# EAGLE library part 74HC4050D,652 (library NXP_By_element14_Batch_1)
Hex high-to-low level shifter
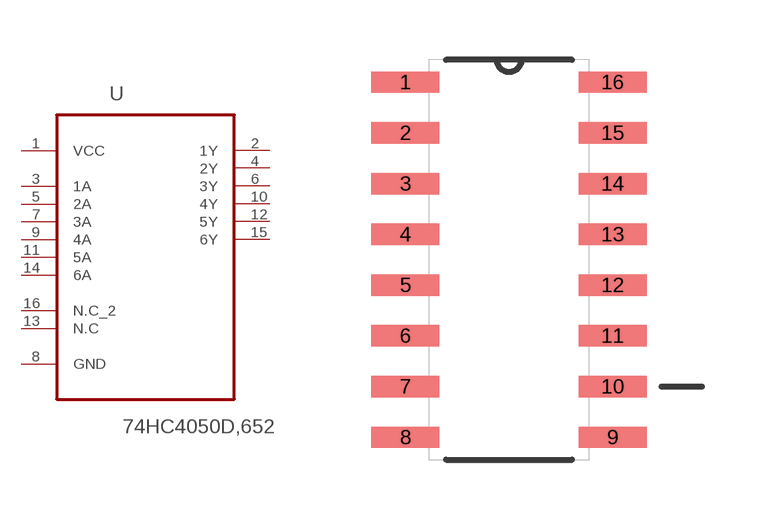
[diagram p96: symbol with the pads of SOIC127P600X175-16N; footprint SOIC127P600X175-16N]

Designator prefix U

## 74HC4050D,652 (MPN: 74HC4050D,652; OC_FARNELL: 1868612; OC_NEWARK: 71R2496; P1I: o; PACKAGE: SOIC-16; SUPPLIER: NXP)  [SOIC127P600X175-16N]
1  VCC  pwr
2  1Y  out
3  1A  in
4  2Y  out
5  2A  in
6  3Y  out
7  3A  in
8  GND  pas
9  4A  in
10  4Y  out
11  5A  in
12  5Y  out
13  N.C  nc
14  6A  in
15  6Y  out
16  N.C_2  nc

## Footprint SOIC127P600X175-16N (pad centres in mm)
smd 1.702 x 0.533: 1 -2.591,4.445; 2 -2.591,3.175; 3 -2.591,1.905; 4 -2.591,0.635; 5 -2.591,-0.635; 6 -2.591,-1.905; 7 -2.591,-3.175; 8 -2.591,-4.445; 9 2.591,-4.445; 10 2.591,-3.175; 11 2.591,-1.905; 12 2.591,-0.635; 13 2.591,0.635; 14 2.591,1.905; 15 2.591,3.175; 16 2.591,4.445